# Altium schematic symbol library SCH - ARM CORTEX - STM STM32L031E(4-6)Yx.SchLib: 1 symbol
Pins are listed as number, name and electrical type; pins without a type are passive.

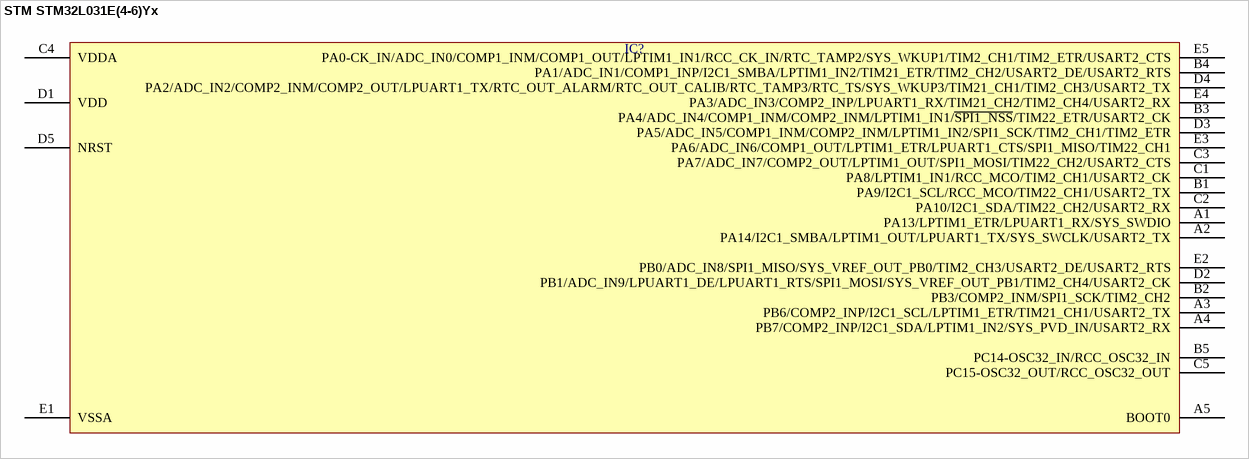
[diagram p0: symbol STM STM32L031E(4-6)Yx]

## STM STM32L031E(4-6)Yx
designator IC?  (value not drawn)
pins: A1 PA13/LPTIM1_ETR/LPUART1_RX/SYS_SWDIO, A2 PA14/I2C1_SMBA/LPTIM1_OUT/LPUART1_TX/SYS_SWCLK/USART2_TX, A3 PB6/COMP2_INP/I2C1_SCL/LPTIM1_ETR/TIM21_CH1/USART2_TX, A4 PB7/COMP2_INP/I2C1_SDA/LPTIM1_IN2/SYS_PVD_IN/USART2_RX, A5 BOOT0, B1 PA9/I2C1_SCL/RCC_MCO/TIM22_CH1/USART2_TX, B2 PB3/COMP2_INM/SPI1_SCK/TIM2_CH2, B3 PA4/ADC_IN4/COMP1_INM/COMP2_INM/LPTIM1_IN1/~{SPI1_NSS}/TIM22_ETR/USART2_CK, B4 PA1/ADC_IN1/COMP1_INP/I2C1_SMBA/LPTIM1_IN2/TIM21_ETR/TIM2_CH2/USART2_DE/USART2_RTS, B5 PC14-OSC32_IN/RCC_OSC32_IN, C1 PA8/LPTIM1_IN1/RCC_MCO/TIM2_CH1/USART2_CK, C2 PA10/I2C1_SDA/TIM22_CH2/USART2_RX, C3 PA7/ADC_IN7/COMP2_OUT/LPTIM1_OUT/SPI1_MOSI/TIM22_CH2/USART2_CTS, C4 VDDA, C5 PC15-OSC32_OUT/RCC_OSC32_OUT, D1 VDD, D2 PB1/ADC_IN9/LPUART1_DE/LPUART1_RTS/SPI1_MOSI/SYS_VREF_OUT_PB1/TIM2_CH4/USART2_CK, D3 PA5/ADC_IN5/COMP1_INM/COMP2_INM/LPTIM1_IN2/SPI1_SCK/TIM2_CH1/TIM2_ETR, D4 PA2/ADC_IN2/COMP2_INM/COMP2_OUT/LPUART1_TX/RTC_OUT_ALARM/RTC_OUT_CALIB/RTC_TAMP3/RTC_TS/SYS_WKUP3/TIM21_CH1/TIM2_CH3/USART2_TX, D5 NRST, E1 VSSA, E2 PB0/ADC_IN8/SPI1_MISO/SYS_VREF_OUT_PB0/TIM2_CH3/USART2_DE/USART2_RTS, E3 PA6/ADC_IN6/COMP1_OUT/LPTIM1_ETR/LPUART1_CTS/SPI1_MISO/TIM22_CH1, E4 PA3/ADC_IN3/COMP2_INP/LPUART1_RX/TIM21_CH2/TIM2_CH4/USART2_RX, E5 PA0-CK_IN/ADC_IN0/COMP1_INM/COMP1_OUT/LPTIM1_IN1/RCC_CK_IN/RTC_TAMP2/SYS_WKUP1/TIM2_CH1/TIM2_ETR/USART2_CTS